# EAGLE library part LATTEPANDA3DELTA (library Latte_Panda_Delta_3_v5)
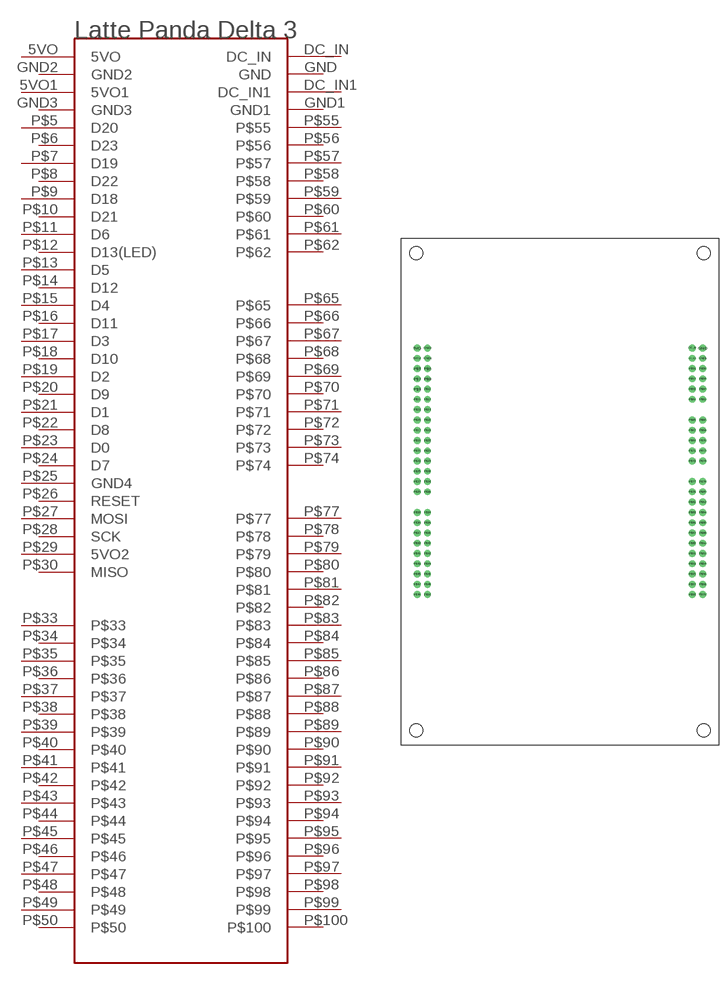
[diagram p0: symbol with the pads of LATTEPANDA3DELTA; footprint LATTEPANDA3DELTA]

Designator prefix -

## LATTEPANDA3DELTA  [LATTEPANDA3DELTA]
5VO  5VO
5VO1  5VO1
DC_IN  DC_IN
DC_IN1  DC_IN1
GND  GND
GND1  GND1
GND2  GND2
GND3  GND3
P$5  D20
P$6  D23
P$7  D19
P$8  D22
P$9  D18
P$10  D21
P$11  D6
P$12  D13(LED)
P$13  D5
P$14  D12
P$15  D4
P$16  D11
P$17  D3
P$18  D10
P$19  D2
P$20  D9
P$21  D1
P$22  D8
P$23  D0
P$24  D7
P$25  GND4
P$26  RESET
P$27  MOSI
P$28  SCK
P$29  5VO2
P$30  MISO
P$33  P$33
P$34  P$34
P$35  P$35
P$36  P$36
P$37  P$37
P$38  P$38
P$39  P$39
P$40  P$40
P$41  P$41
P$42  P$42
P$43  P$43
P$44  P$44
P$45  P$45
P$46  P$46
P$47  P$47
P$48  P$48
P$49  P$49
P$50  P$50
P$55  P$55
P$56  P$56
P$57  P$57
P$58  P$58
P$59  P$59
P$60  P$60
P$61  P$61
P$62  P$62
P$65  P$65
P$66  P$66
P$67  P$67
P$68  P$68
P$69  P$69
P$70  P$70
P$71  P$71
P$72  P$72
P$73  P$73
P$74  P$74
P$77  P$77
P$78  P$78
P$79  P$79
P$80  P$80
P$81  P$81
P$82  P$82
P$83  P$83
P$84  P$84
P$85  P$85
P$86  P$86
P$87  P$87
P$88  P$88
P$89  P$89
P$90  P$90
P$91  P$91
P$92  P$92
P$93  P$93
P$94  P$94
P$95  P$95
P$96  P$96
P$97  P$97
P$98  P$98
P$99  P$99
P$100  P$100

## Footprint LATTEPANDA3DELTA (pad centres in mm)
drill 1 pad 1.676: 5VO 0,0; 5VO1 0,-2.54; DC_IN 68,0; DC_IN1 68,-2.54; GND 70.54,0; GND1 70.54,-2.54; GND2 2.54,0; GND3 2.54,-2.54; P$5 0,-5.08; P$6 2.54,-5.08; P$7 0,-7.62; P$8 2.54,-7.62; P$9 0,-10.16; P$10 2.54,-10.16; P$11 0,-12.7; P$12 2.54,-12.7; P$13 0,-15.24; P$14 2.54,-15.24; P$15 0,-17.78; P$16 2.54,-17.78; P$17 0,-20.32; P$18 2.54,-20.32; P$19 0,-22.86; P$20 2.54,-22.86; P$21 0,-25.4; P$22 2.54,-25.4; P$23 0,-27.94; P$24 2.54,-27.94; P$25 0,-30.48; P$26 2.54,-30.48; P$27 0,-33.02; P$28 2.54,-33.02; P$29 0,-35.56; P$30 2.54,-35.56; P$33 0,-40.64; P$34 2.54,-40.64; P$35 0,-43.18; P$36 2.54,-43.18; P$37 0,-45.72; P$38 2.54,-45.72; P$39 0,-48.26; P$40 2.54,-48.26; P$41 0,-50.8; P$42 2.54,-50.8; P$43 0,-53.34; P$44 2.54,-53.34; P$45 0,-55.88; P$46 2.54,-55.88; P$47 0,-58.42; P$48 2.54,-58.42; P$49 0,-60.96; P$50 2.54,-60.96; P$55 68,-5.08; P$56 70.54,-5.08; P$57 68,-7.62; P$58 70.54,-7.62; P$59 68,-10.16; P$60 70.54,-10.16; P$61 68,-12.7; P$62 70.54,-12.7; P$65 68,-17.78; P$66 70.54,-17.78; P$67 68,-20.32; P$68 70.54,-20.32; P$69 68,-22.86; P$70 70.54,-22.86; P$71 68,-25.4; P$72 70.54,-25.4; P$73 68,-27.94; P$74 70.54,-27.94; P$77 68,-33.02; P$78 70.54,-33.02; P$79 68,-35.56; P$80 70.54,-35.56; P$81 68,-38.1; P$82 70.54,-38.1; P$83 68,-40.64; P$84 70.54,-40.64; P$85 68,-43.18; P$86 70.54,-43.18; P$87 68,-45.72; P$88 70.54,-45.72; P$89 68,-48.26; P$90 70.54,-48.26; P$91 68,-50.8; P$92 70.54,-50.8; P$93 68,-53.34; P$94 70.54,-53.34; P$95 68,-55.88; P$96 70.54,-55.88; P$97 68,-58.42; P$98 70.54,-58.42; P$99 68,-60.96; P$100 70.54,-60.96
hole 3.2 at -0.23,23.465
hole 3.2 at 70.77,23.465
hole 3.2 at -0.23,-94.535
hole 3.2 at 70.77,-94.535